# Altium schematic symbol library TI M4F.SchLib: 2 symbols
Pins are listed as number, name and electrical type; pins without a type are passive.

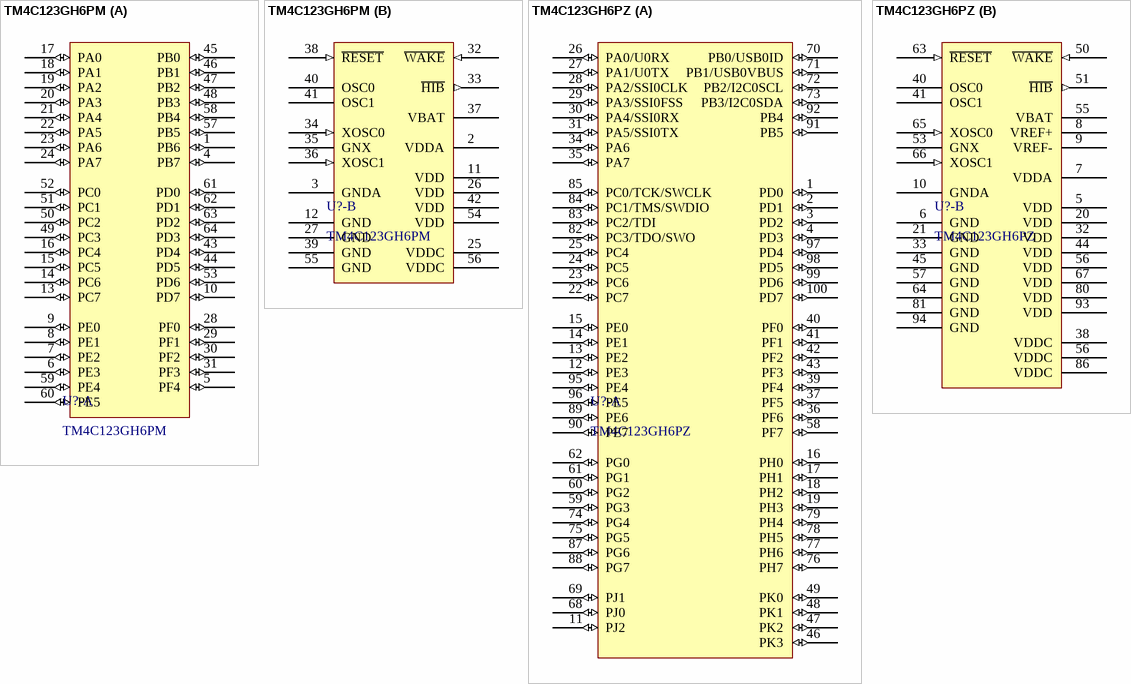
[diagram p0: symbols TM4C123GH6PM to TM4C123GH6PZ]

## TM4C123GH6PM
designator U?-
TI Cortex-M4 LQFP64
part A pins: 1 PB6 (io), 4 PB7 (io), 5 PF4 (io), 6 PE3 (io), 7 PE2 (io), 8 PE1 (io), 9 PE0 (io), 10 PD7 (io), 13 PC7 (io), 14 PC6 (io), 15 PC5 (io), 16 PC4 (io), 17 PA0 (io), 18 PA1 (io), 19 PA2 (io), 20 PA3 (io), 21 PA4 (io), 22 PA5 (io), 23 PA6 (io), 24 PA7 (io), 28 PF0 (io), 29 PF1 (io), 30 PF2 (io), 31 PF3 (io), 43 PD4 (io), 44 PD5 (io), 45 PB0 (io), 46 PB1 (io), 47 PB2 (io), 48 PB3 (io), 49 PC3 (io), 50 PC2 (io), 51 PC1 (io), 52 PC0 (io), 53 PD6 (io), 57 PB5 (io), 58 PB4 (io), 59 PE4 (io), 60 PE5 (io), 61 PD0 (io), 62 PD1 (io), 63 PD2 (io), 64 PD3 (io)
part B pins: 2 VDDA (power), 3 GNDA (power), 11 VDD (power), 12 GND (power), 25 VDDC (power), 26 VDD (power), 27 GND (power), 32 ~{WAKE} (in), 33 ~{HIB} (out), 34 XOSC0 (in), 35 GNX (power), 36 XOSC1 (in), 37 VBAT (power), 38 ~{RESET} (in), 39 GND (power), 40 OSC0, 41 OSC1, 42 VDD (power), 54 VDD (power), 55 GND (power), 56 VDDC (power)

## TM4C123GH6PZ
designator U?-
TI Cortex-M4 LQFP100
part A pins: 1 PD0 (io), 2 PD1 (io), 3 PD2 (io), 4 PD3 (io), 11 PJ2 (io), 12 PE3 (io), 13 PE2 (io), 14 PE1 (io), 15 PE0 (io), 16 PH0 (io), 17 PH1 (io), 18 PH2 (io), 19 PH3 (io), 22 PC7 (io), 23 PC6 (io), 24 PC5 (io), 25 PC4 (io), 26 PA0/U0RX (io), 27 PA1/U0TX (io), 28 PA2/SSI0CLK (io), 29 PA3/SSI0FSS (io), 30 PA4/SSI0RX (io), 31 PA5/SSI0TX (io), 34 PA6 (io), 35 PA7 (io), 36 PF6 (io), 37 PF5 (io), 39 PF4 (io), 40 PF0 (io), 41 PF1 (io), 42 PF2 (io), 43 PF3 (io), 46 PK3 (io), 47 PK2 (io), 48 PK1 (io), 49 PK0 (io), 58 PF7 (io), 59 PG3 (io), 60 PG2 (io), 61 PG1 (io), 62 PG0 (io), 68 PJ0 (io), 69 PJ1 (io), 70 PB0/USB0ID (io), 71 PB1/USB0VBUS (io), 72 PB2/I2C0SCL (io), 73 PB3/I2C0SDA (io), 74 PG4 (io), 75 PG5 (io), 76 PH7 (io), 77 PH6 (io), 78 PH5 (io), 79 PH4 (io), 82 PC3/TDO/SWO (io), 83 PC2/TDI (io), 84 PC1/TMS/SWDIO (io), 85 PC0/TCK/SWCLK (io), 87 PG6 (io), 88 PG7 (io), 89 PE6 (io), 90 PE7 (io), 91 PB5 (io), 92 PB4 (io), 95 PE4 (io), 96 PE5 (io), 97 PD4 (io), 98 PD5 (io), 99 PD6 (io), 100 PD7 (io)
part B pins: 5 VDD (power), 6 GND (power), 7 VDDA (power), 8 VREF+ (power), 9 VREF- (power), 10 GNDA (power), 20 VDD (power), 21 GND (power), 32 VDD (power), 33 GND (power), 38 VDDC (power), 40 OSC0, 41 OSC1, 44 VDD (power), 45 GND (power), 50 ~{WAKE} (in), 51 ~{HIB} (out), 53 GNX (power), 55 VBAT (power), 56 VDDC (power), 56 VDD (power), 57 GND (power), 63 ~{RESET} (in), 64 GND (power), 65 XOSC0 (in), 66 XOSC1 (in), 67 VDD (power), 80 VDD (power), 81 GND (power), 86 VDDC (power), 93 VDD (power), 94 GND (power)